# Altium schematic symbol library SCH - MCU - STM32 - ST MICROELECTRONICS STM32F469A(E-G-I)HX UFBGA169.SchLib: 1 symbol
Pins are listed as number, name and electrical type; pins without a type are passive.

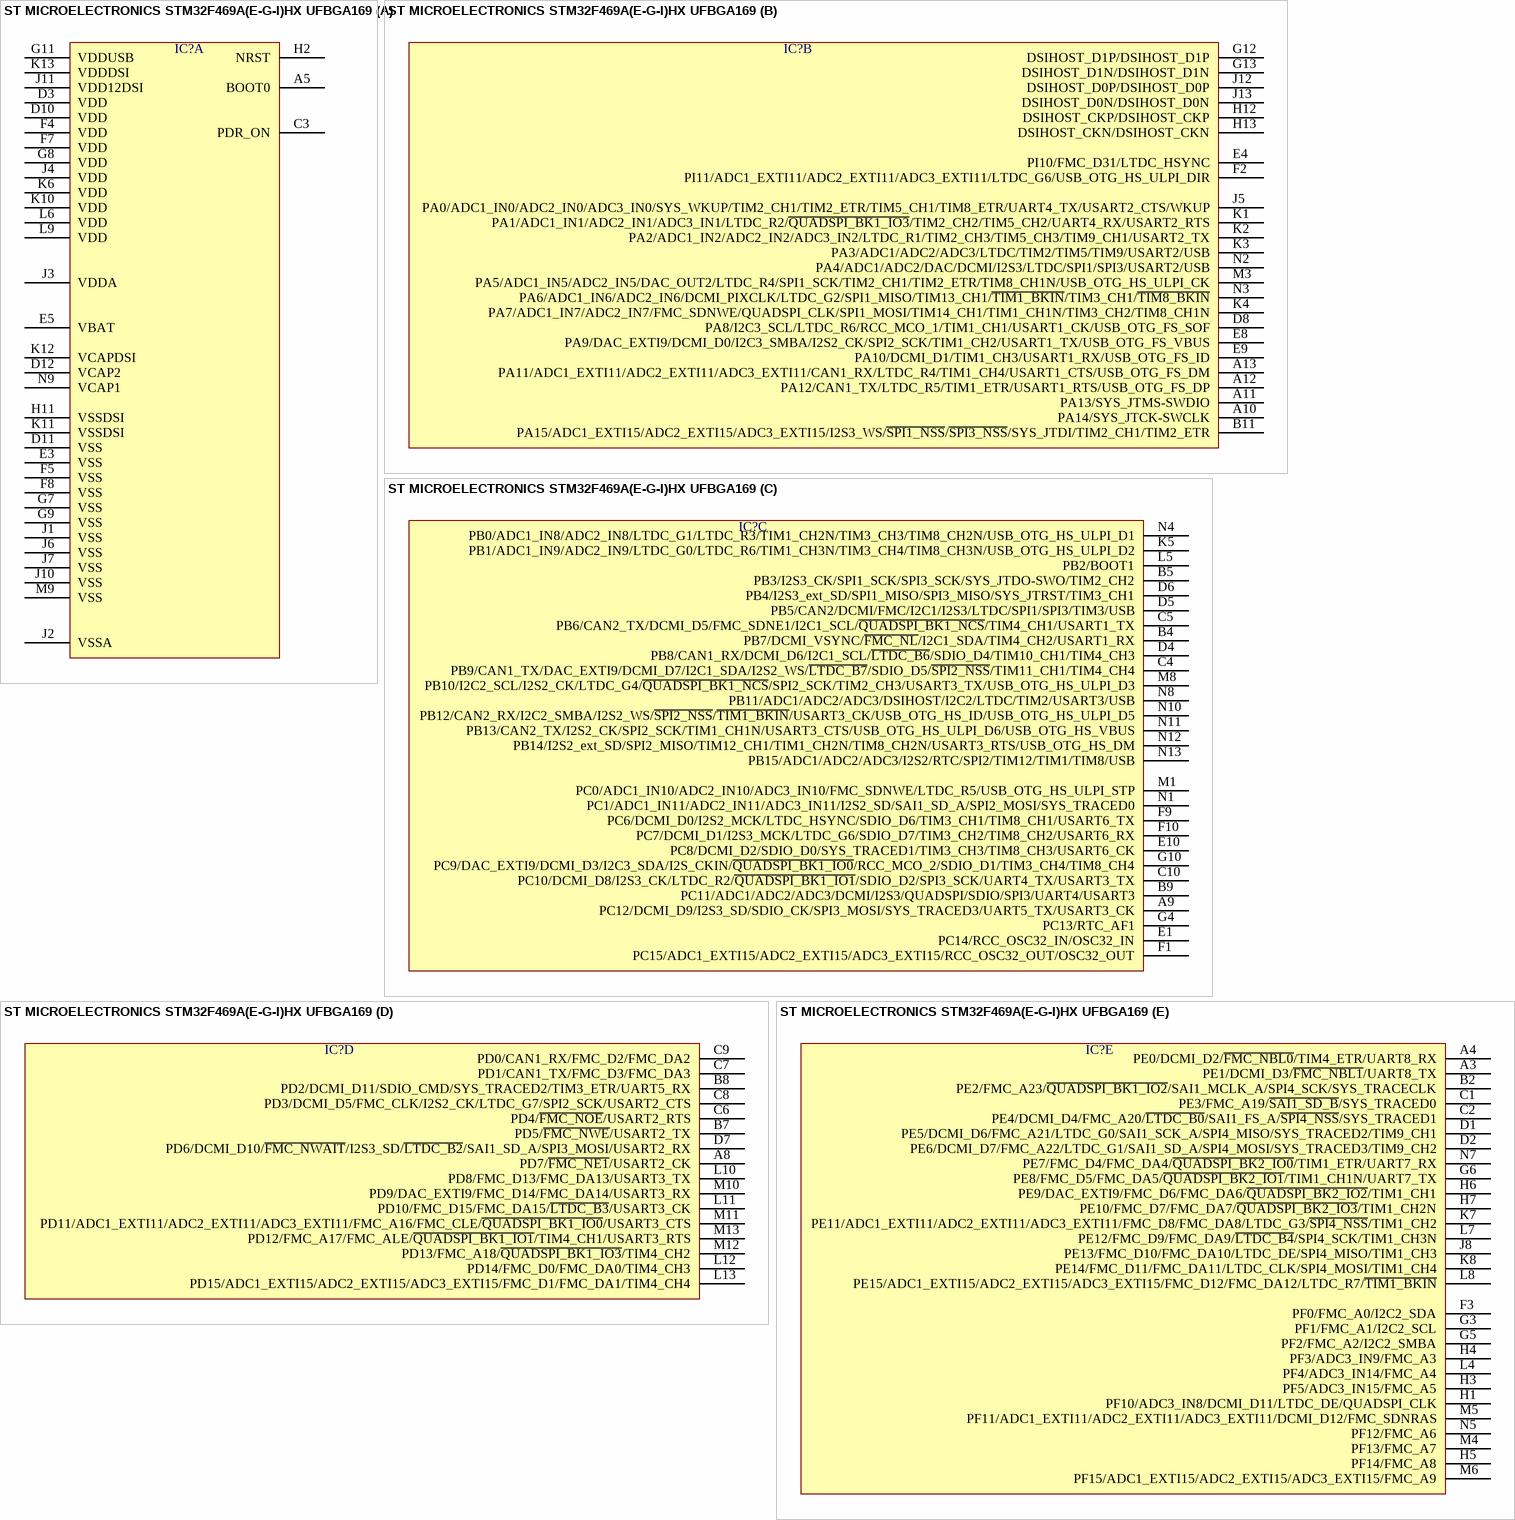
[diagram p0: symbol ST MICROELECTRONICS STM32F469A(E-G-I)HX UFBGA169]

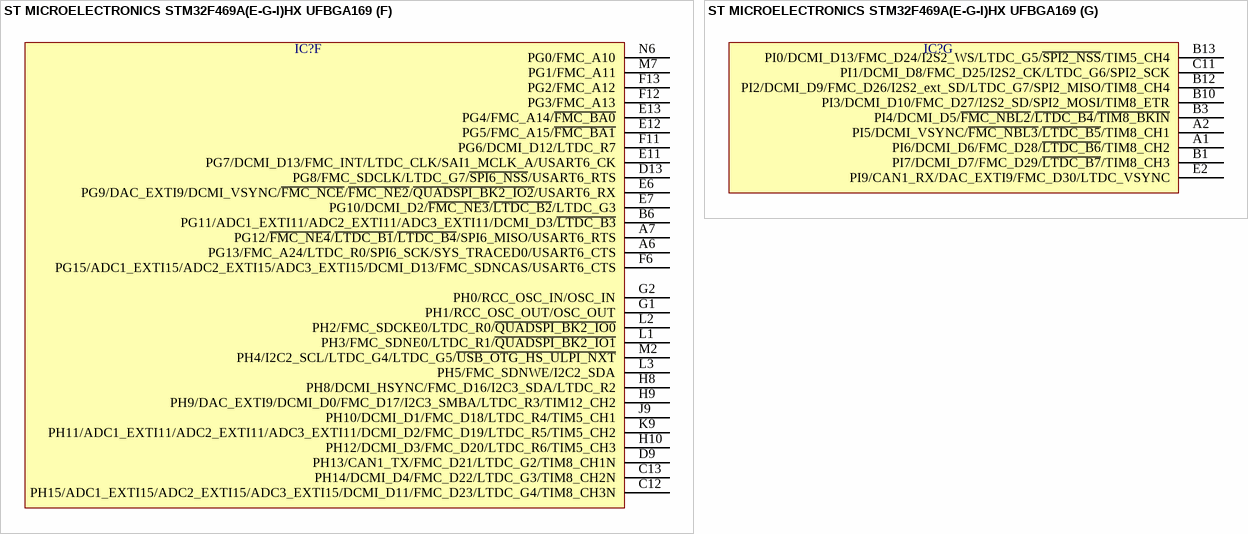
[diagram p1: symbol ST MICROELECTRONICS STM32F469A(E-G-I)HX UFBGA169]

## ST MICROELECTRONICS STM32F469A(E-G-I)HX UFBGA169
designator IC?  (value not drawn)
part A pins: A5 BOOT0, C3 PDR_ON, D3 VDD, D10 VDD, D11 VSS, D12 VCAP2, E3 VSS, E5 VBAT, F4 VDD, F5 VSS, F7 VDD, F8 VSS, G7 VSS, G8 VDD, G9 VSS, G11 VDDUSB, H2 NRST, H11 VSSDSI, J1 VSS, J2 VSSA, J3 VDDA, J4 VDD, J6 VSS, J7 VSS, J10 VSS, J11 VDD12DSI, K6 VDD, K10 VDD, K11 VSSDSI, K12 VCAPDSI, K13 VDDDSI, L6 VDD, L9 VDD, M9 VSS, N9 VCAP1
part B pins: A10 PA14/SYS_JTCK-SWCLK, A11 PA13/SYS_JTMS-SWDIO, A12 PA12/CAN1_TX/LTDC_R5/TIM1_ETR/USART1_RTS/USB_OTG_FS_DP, A13 PA11/ADC1_EXTI11/ADC2_EXTI11/ADC3_EXTI11/CAN1_RX/LTDC_R4/TIM1_CH4/USART1_CTS/USB_OTG_FS_DM, B11 PA15/ADC1_EXTI15/ADC2_EXTI15/ADC3_EXTI15/I2S3_WS/~{SPI1_NSS}/~{SPI3_NSS}/SYS_JTDI/TIM2_CH1/TIM2_ETR, D8 PA8/I2C3_SCL/LTDC_R6/RCC_MCO_1/TIM1_CH1/USART1_CK/USB_OTG_FS_SOF, E4 PI10/FMC_D31/LTDC_HSYNC, E8 PA9/DAC_EXTI9/DCMI_D0/I2C3_SMBA/I2S2_CK/SPI2_SCK/TIM1_CH2/USART1_TX/USB_OTG_FS_VBUS, E9 PA10/DCMI_D1/TIM1_CH3/USART1_RX/USB_OTG_FS_ID, F2 PI11/ADC1_EXTI11/ADC2_EXTI11/ADC3_EXTI11/LTDC_G6/USB_OTG_HS_ULPI_DIR, G12 DSIHOST_D1P/DSIHOST_D1P, G13 DSIHOST_D1N/DSIHOST_D1N, H12 DSIHOST_CKP/DSIHOST_CKP, H13 DSIHOST_CKN/DSIHOST_CKN, J5 PA0/ADC1_IN0/ADC2_IN0/ADC3_IN0/SYS_WKUP/TIM2_CH1/TIM2_ETR/TIM5_CH1/TIM8_ETR/UART4_TX/USART2_CTS/WKUP, J12 DSIHOST_D0P/DSIHOST_D0P, J13 DSIHOST_D0N/DSIHOST_D0N, K1 PA1/ADC1_IN1/ADC2_IN1/ADC3_IN1/LTDC_R2/~{QUADSPI_BK1_IO3}/TIM2_CH2/TIM5_CH2/UART4_RX/USART2_RTS, K2 PA2/ADC1_IN2/ADC2_IN2/ADC3_IN2/LTDC_R1/TIM2_CH3/TIM5_CH3/TIM9_CH1/USART2_TX, K3 PA3/ADC1/ADC2/ADC3/LTDC/TIM2/TIM5/TIM9/USART2/USB, K4 PA7/ADC1_IN7/ADC2_IN7/FMC_SDNWE/QUADSPI_CLK/SPI1_MOSI/TIM14_CH1/TIM1_CH1N/TIM3_CH2/TIM8_CH1N, M3 PA5/ADC1_IN5/ADC2_IN5/DAC_OUT2/LTDC_R4/SPI1_SCK/TIM2_CH1/TIM2_ETR/TIM8_CH1N/USB_OTG_HS_ULPI_CK, N2 PA4/ADC1/ADC2/DAC/DCMI/I2S3/LTDC/SPI1/SPI3/USART2/USB, N3 PA6/ADC1_IN6/ADC2_IN6/DCMI_PIXCLK/LTDC_G2/SPI1_MISO/TIM13_CH1/~{TIM1_BKIN}/TIM3_CH1/~{TIM8_BKIN}
part C pins: A9 PC12/DCMI_D9/I2S3_SD/SDIO_CK/SPI3_MOSI/SYS_TRACED3/UART5_TX/USART3_CK, B4 PB7/DCMI_VSYNC/~{FMC_NL}/I2C1_SDA/TIM4_CH2/USART1_RX, B5 PB3/I2S3_CK/SPI1_SCK/SPI3_SCK/SYS_JTDO-SWO/TIM2_CH2, B9 PC11/ADC1/ADC2/ADC3/DCMI/I2S3/QUADSPI/SDIO/SPI3/UART4/USART3, C4 PB9/CAN1_TX/DAC_EXTI9/DCMI_D7/I2C1_SDA/I2S2_WS/~{LTDC_B7}/SDIO_D5/~{SPI2_NSS}/TIM11_CH1/TIM4_CH4, C5 PB6/CAN2_TX/DCMI_D5/FMC_SDNE1/I2C1_SCL/~{QUADSPI_BK1_NCS}/TIM4_CH1/USART1_TX, C10 PC10/DCMI_D8/I2S3_CK/LTDC_R2/~{QUADSPI_BK1_IO1}/SDIO_D2/SPI3_SCK/UART4_TX/USART3_TX, D4 PB8/CAN1_RX/DCMI_D6/I2C1_SCL/~{LTDC_B6}/SDIO_D4/TIM10_CH1/TIM4_CH3, D5 PB5/CAN2/DCMI/FMC/I2C1/I2S3/LTDC/SPI1/SPI3/TIM3/USB, D6 PB4/I2S3_ext_SD/SPI1_MISO/SPI3_MISO/SYS_JTRST/TIM3_CH1, E1 PC14/RCC_OSC32_IN/OSC32_IN, E10 PC8/DCMI_D2/SDIO_D0/SYS_TRACED1/TIM3_CH3/TIM8_CH3/USART6_CK, F1 PC15/ADC1_EXTI15/ADC2_EXTI15/ADC3_EXTI15/RCC_OSC32_OUT/OSC32_OUT, F9 PC6/DCMI_D0/I2S2_MCK/LTDC_HSYNC/SDIO_D6/TIM3_CH1/TIM8_CH1/USART6_TX, F10 PC7/DCMI_D1/I2S3_MCK/LTDC_G6/SDIO_D7/TIM3_CH2/TIM8_CH2/USART6_RX, G4 PC13/RTC_AF1, G10 PC9/DAC_EXTI9/DCMI_D3/I2C3_SDA/I2S_CKIN/~{QUADSPI_BK1_IO0}/RCC_MCO_2/SDIO_D1/TIM3_CH4/TIM8_CH4, K5 PB1/ADC1_IN9/ADC2_IN9/LTDC_G0/LTDC_R6/TIM1_CH3N/TIM3_CH4/TIM8_CH3N/USB_OTG_HS_ULPI_D2, L5 PB2/BOOT1, M1 PC0/ADC1_IN10/ADC2_IN10/ADC3_IN10/FMC_SDNWE/LTDC_R5/USB_OTG_HS_ULPI_STP, M8 PB10/I2C2_SCL/I2S2_CK/LTDC_G4/~{QUADSPI_BK1_NCS}/SPI2_SCK/TIM2_CH3/USART3_TX/USB_OTG_HS_ULPI_D3, N1 PC1/ADC1_IN11/ADC2_IN11/ADC3_IN11/I2S2_SD/SAI1_SD_A/SPI2_MOSI/SYS_TRACED0, N4 PB0/ADC1_IN8/ADC2_IN8/LTDC_G1/LTDC_R3/TIM1_CH2N/TIM3_CH3/TIM8_CH2N/USB_OTG_HS_ULPI_D1, N8 PB11/ADC1/ADC2/ADC3/DSIHOST/I2C2/LTDC/TIM2/USART3/USB, N10 PB12/CAN2_RX/I2C2_SMBA/I2S2_WS/~{SPI2_NSS}/~{TIM1_BKIN}/USART3_CK/USB_OTG_HS_ID/USB_OTG_HS_ULPI_D5, N11 PB13/CAN2_TX/I2S2_CK/SPI2_SCK/TIM1_CH1N/USART3_CTS/USB_OTG_HS_ULPI_D6/USB_OTG_HS_VBUS, N12 PB14/I2S2_ext_SD/SPI2_MISO/TIM12_CH1/TIM1_CH2N/TIM8_CH2N/USART3_RTS/USB_OTG_HS_DM, N13 PB15/ADC1/ADC2/ADC3/I2S2/RTC/SPI2/TIM12/TIM1/TIM8/USB
part D pins: A8 PD7/~{FMC_NE1}/USART2_CK, B7 PD5/~{FMC_NWE}/USART2_TX, B8 PD2/DCMI_D11/SDIO_CMD/SYS_TRACED2/TIM3_ETR/UART5_RX, C6 PD4/~{FMC_NOE}/USART2_RTS, C7 PD1/CAN1_TX/FMC_D3/FMC_DA3, C8 PD3/DCMI_D5/FMC_CLK/I2S2_CK/LTDC_G7/SPI2_SCK/USART2_CTS, C9 PD0/CAN1_RX/FMC_D2/FMC_DA2, D7 PD6/DCMI_D10/~{FMC_NWAIT}/I2S3_SD/~{LTDC_B2}/SAI1_SD_A/SPI3_MOSI/USART2_RX, L10 PD8/FMC_D13/FMC_DA13/USART3_TX, L11 PD10/FMC_D15/FMC_DA15/~{LTDC_B3}/USART3_CK, L12 PD14/FMC_D0/FMC_DA0/TIM4_CH3, L13 PD15/ADC1_EXTI15/ADC2_EXTI15/ADC3_EXTI15/FMC_D1/FMC_DA1/TIM4_CH4, M10 PD9/DAC_EXTI9/FMC_D14/FMC_DA14/USART3_RX, M11 PD11/ADC1_EXTI11/ADC2_EXTI11/ADC3_EXTI11/FMC_A16/FMC_CLE/~{QUADSPI_BK1_IO0}/USART3_CTS, M12 PD13/FMC_A18/~{QUADSPI_BK1_IO3}/TIM4_CH2, M13 PD12/FMC_A17/FMC_ALE/~{QUADSPI_BK1_IO1}/TIM4_CH1/USART3_RTS
part E pins: A3 PE1/DCMI_D3/~{FMC_NBL1}/UART8_TX, A4 PE0/DCMI_D2/~{FMC_NBL0}/TIM4_ETR/UART8_RX, B2 PE2/FMC_A23/~{QUADSPI_BK1_IO2}/SAI1_MCLK_A/SPI4_SCK/SYS_TRACECLK, C1 PE3/FMC_A19/~{SAI1_SD_B}/SYS_TRACED0, C2 PE4/DCMI_D4/FMC_A20/~{LTDC_B0}/SAI1_FS_A/~{SPI4_NSS}/SYS_TRACED1, D1 PE5/DCMI_D6/FMC_A21/LTDC_G0/SAI1_SCK_A/SPI4_MISO/SYS_TRACED2/TIM9_CH1, D2 PE6/DCMI_D7/FMC_A22/LTDC_G1/SAI1_SD_A/SPI4_MOSI/SYS_TRACED3/TIM9_CH2, F3 PF0/FMC_A0/I2C2_SDA, G3 PF1/FMC_A1/I2C2_SCL, G5 PF2/FMC_A2/I2C2_SMBA, G6 PE8/FMC_D5/FMC_DA5/~{QUADSPI_BK2_IO1}/TIM1_CH1N/UART7_TX, H1 PF10/ADC3_IN8/DCMI_D11/LTDC_DE/QUADSPI_CLK, H3 PF5/ADC3_IN15/FMC_A5, H4 PF3/ADC3_IN9/FMC_A3, H5 PF14/FMC_A8, H6 PE9/DAC_EXTI9/FMC_D6/FMC_DA6/~{QUADSPI_BK2_IO2}/TIM1_CH1, H7 PE10/FMC_D7/FMC_DA7/~{QUADSPI_BK2_IO3}/TIM1_CH2N, J8 PE13/FMC_D10/FMC_DA10/LTDC_DE/SPI4_MISO/TIM1_CH3, K7 PE11/ADC1_EXTI11/ADC2_EXTI11/ADC3_EXTI11/FMC_D8/FMC_DA8/LTDC_G3/~{SPI4_NSS}/TIM1_CH2, K8 PE14/FMC_D11/FMC_DA11/LTDC_CLK/SPI4_MOSI/TIM1_CH4, L4 PF4/ADC3_IN14/FMC_A4, L7 PE12/FMC_D9/FMC_DA9/~{LTDC_B4}/SPI4_SCK/TIM1_CH3N, L8 PE15/ADC1_EXTI15/ADC2_EXTI15/ADC3_EXTI15/FMC_D12/FMC_DA12/LTDC_R7/~{TIM1_BKIN}, M4 PF13/FMC_A7, M5 PF11/ADC1_EXTI11/ADC2_EXTI11/ADC3_EXTI11/DCMI_D12/FMC_SDNRAS, M6 PF15/ADC1_EXTI15/ADC2_EXTI15/ADC3_EXTI15/FMC_A9, N5 PF12/FMC_A6, N7 PE7/FMC_D4/FMC_DA4/~{QUADSPI_BK2_IO0}/TIM1_ETR/UART7_RX
part F pins: A6 PG13/FMC_A24/LTDC_R0/SPI6_SCK/SYS_TRACED0/USART6_CTS, A7 PG12/~{FMC_NE4}/~{LTDC_B1}/~{LTDC_B4}/SPI6_MISO/USART6_RTS, B6 PG11/ADC1_EXTI11/ADC2_EXTI11/ADC3_EXTI11/DCMI_D3/~{LTDC_B3}, C12 PH15/ADC1_EXTI15/ADC2_EXTI15/ADC3_EXTI15/DCMI_D11/FMC_D23/LTDC_G4/TIM8_CH3N, C13 PH14/DCMI_D4/FMC_D22/LTDC_G3/TIM8_CH2N, D9 PH13/CAN1_TX/FMC_D21/LTDC_G2/TIM8_CH1N, D13 PG8/FMC_SDCLK/LTDC_G7/~{SPI6_NSS}/USART6_RTS, E6 PG9/DAC_EXTI9/DCMI_VSYNC/~{FMC_NCE}/~{FMC_NE2}/~{QUADSPI_BK2_IO2}/USART6_RX, E7 PG10/DCMI_D2/~{FMC_NE3}/~{LTDC_B2}/LTDC_G3, E11 PG7/DCMI_D13/FMC_INT/LTDC_CLK/SAI1_MCLK_A/USART6_CK, E12 PG5/FMC_A15/~{FMC_BA1}, E13 PG4/FMC_A14/~{FMC_BA0}, F6 PG15/ADC1_EXTI15/ADC2_EXTI15/ADC3_EXTI15/DCMI_D13/FMC_SDNCAS/USART6_CTS, F11 PG6/DCMI_D12/LTDC_R7, F12 PG3/FMC_A13, F13 PG2/FMC_A12, G1 PH1/RCC_OSC_OUT/OSC_OUT, G2 PH0/RCC_OSC_IN/OSC_IN, H8 PH8/DCMI_HSYNC/FMC_D16/I2C3_SDA/LTDC_R2, H9 PH9/DAC_EXTI9/DCMI_D0/FMC_D17/I2C3_SMBA/LTDC_R3/TIM12_CH2, H10 PH12/DCMI_D3/FMC_D20/LTDC_R6/TIM5_CH3, J9 PH10/DCMI_D1/FMC_D18/LTDC_R4/TIM5_CH1, K9 PH11/ADC1_EXTI11/ADC2_EXTI11/ADC3_EXTI11/DCMI_D2/FMC_D19/LTDC_R5/TIM5_CH2, L1 PH3/FMC_SDNE0/LTDC_R1/~{QUADSPI_BK2_IO1}, L2 PH2/FMC_SDCKE0/LTDC_R0/~{QUADSPI_BK2_IO0}, L3 PH5/FMC_SDNWE/I2C2_SDA, M2 PH4/I2C2_SCL/LTDC_G4/LTDC_G5/~{USB_OTG_HS_ULPI_NXT}, M7 PG1/FMC_A11, N6 PG0/FMC_A10
part G pins: A1 PI6/DCMI_D6/FMC_D28/~{LTDC_B6}/TIM8_CH2, A2 PI5/DCMI_VSYNC/~{FMC_NBL3}/~{LTDC_B5}/TIM8_CH1, B1 PI7/DCMI_D7/FMC_D29/~{LTDC_B7}/TIM8_CH3, B3 PI4/DCMI_D5/~{FMC_NBL2}/~{LTDC_B4}/~{TIM8_BKIN}, B10 PI3/DCMI_D10/FMC_D27/I2S2_SD/SPI2_MOSI/TIM8_ETR, B12 PI2/DCMI_D9/FMC_D26/I2S2_ext_SD/LTDC_G7/SPI2_MISO/TIM8_CH4, B13 PI0/DCMI_D13/FMC_D24/I2S2_WS/LTDC_G5/~{SPI2_NSS}/TIM5_CH4, C11 PI1/DCMI_D8/FMC_D25/I2S2_CK/LTDC_G6/SPI2_SCK, E2 PI9/CAN1_RX/DAC_EXTI9/FMC_D30/LTDC_VSYNC